# EAGLE library part CY8C4245-LQI-LONG (library PsoC)
CY8C4245-LQI Programmable System-on-Chip ■ 32-bit MCU Sub-system ■ 48-MHz ARM Cortex-M0 CPU with single cycle multiply ■ Up to 32 kB of flash with Read Accelerator ■ Up to 4 kB of SRAM ■ Datasheet <http://www.cypress.com/file/138656/download>
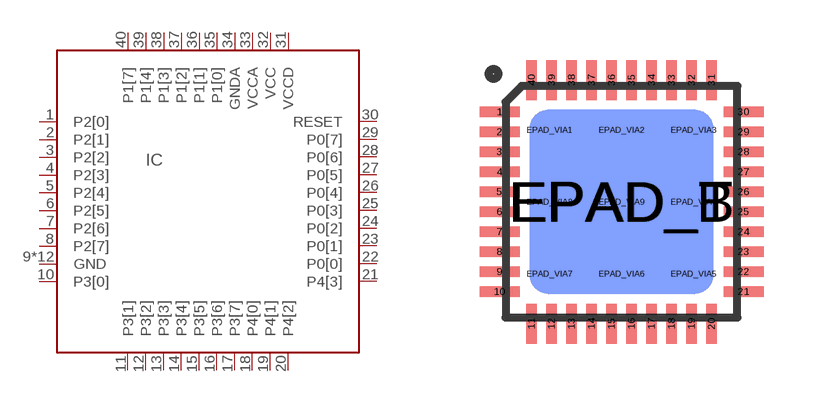
[diagram p1: symbol with the pads of QFN40-LONG; footprint QFN40-LONG]

Designator prefix IC

## CY8C4245-LQI-LONG  [QFN40-LONG]
1  P2[0]
2  P2[1]
3  P2[2]
4  P2[3]
5  P2[4]
6  P2[5]
7  P2[6]
8  P2[7]
9  GND  pwr
10  P3[0]
11  P3[1]
12  P3[2]
13  P3[3]
14  P3[4]
15  P3[5]
16  P3[6]
17  P3[7]
18  P4[0]
19  P4[1]
20  P4[2]
21  P4[3]
22  P0[0]
23  P0[1]
24  P0[2]
25  P0[3]
26  P0[4]
27  P0[5]
28  P0[6]
29  P0[7]
30  RESET  in
31  VCCD  pwr
32  VCC  pwr
33  VCCA  pwr
34  GNDA  pwr
35  P1[0]
36  P1[1]
37  P1[2]
38  P1[3]
39  P1[4]
40  P1[7]
EPAD_B  GND  pwr
EPAD_T  GND  pwr
EPAD_VIA1  GND  pwr
EPAD_VIA2  GND  pwr
EPAD_VIA3  GND  pwr
EPAD_VIA4  GND  pwr
EPAD_VIA5  GND  pwr
EPAD_VIA6  GND  pwr
EPAD_VIA7  GND  pwr
EPAD_VIA8  GND  pwr
EPAD_VIA9  GND  pwr

## Footprint QFN40-LONG (pad centres in mm)
QFN40-LONG Auto generated by make-symbol-device-package-bsdl.ulp Rev. 44
smd 1 x 0.26: 1 -3.05,2.25; 2 -3.05,1.75; 3 -3.05,1.25; 4 -3.05,0.75; 5 -3.05,0.25; 6 -3.05,-0.25; 7 -3.05,-0.75; 8 -3.05,-1.25; 9 -3.05,-1.75; 10 -3.05,-2.25; 21 3.05,-2.25; 22 3.05,-1.75; 23 3.05,-1.25; 24 3.05,-0.75; 25 3.05,-0.25; 26 3.05,0.25; 27 3.05,0.75; 28 3.05,1.25; 29 3.05,1.75; 30 3.05,2.25
smd 0.26 x 1: 11 -2.25,-3.05; 12 -1.75,-3.05; 13 -1.25,-3.05; 14 -0.75,-3.05; 15 -0.25,-3.05; 16 0.25,-3.05; 17 0.75,-3.05; 18 1.25,-3.05; 19 1.75,-3.05; 20 2.25,-3.05; 31 2.25,3.05; 32 1.75,3.05; 33 1.25,3.05; 34 0.75,3.05; 35 0.25,3.05; 36 -0.25,3.05; 37 -0.75,3.05; 38 -1.25,3.05; 39 -1.75,3.05; 40 -2.25,3.05
smd 4.6 x 4.6 bottom: EPAD_B 0,0
smd 4.6 x 4.6: EPAD_T 0,0
drill 0.4: EPAD_VIA1 -1.8,1.8; EPAD_VIA2 0,1.8; EPAD_VIA3 1.8,1.8; EPAD_VIA4 1.8,0; EPAD_VIA5 1.8,-1.8; EPAD_VIA6 0,-1.8; EPAD_VIA7 -1.8,-1.8; EPAD_VIA8 -1.8,0; EPAD_VIA9 0,0